# Altium footprint library WSON-6(2.0X2.0).PcbLib: 1 footprints
Each footprint in its own frame and in the unit in brackets; x right, y up, seen from the top. Pads: shape width x height; smd on the part's side, far side on the other; paste and mask are expansions set on the pad; w line width, h text height; cw(c..) or ccw(c..) is an arc to the next point about the centre after c.
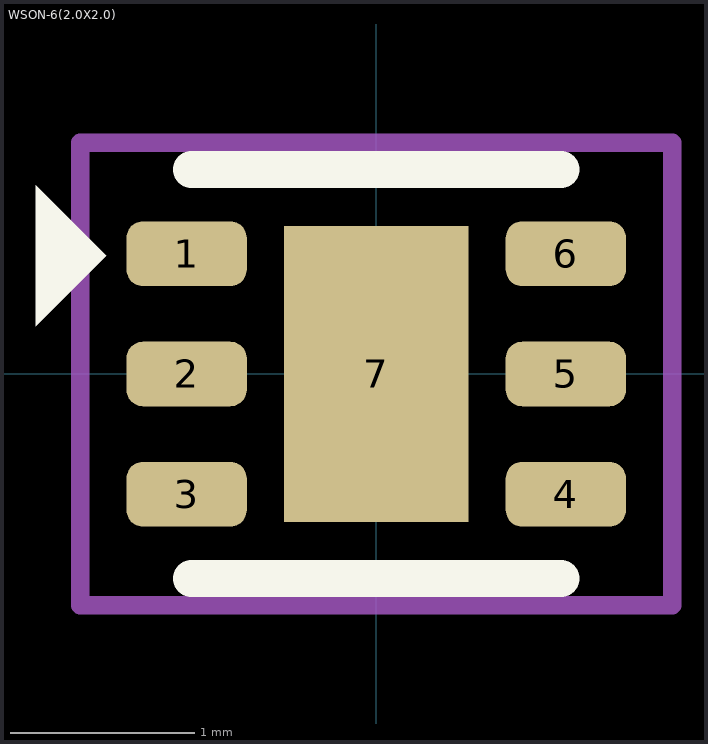
[diagram p0: the footprint, top view; thin cyan lines are the x and y axes]

## WSON-6(2.0X2.0) [mm]
pads (7):
  rrect50% 0.65x0.35 smd mask+0.07: 1(-1.025,0.65) 2(-1.025,0) 3(-1.025,-0.65) 4(1.025,-0.65) 5(1.025,0) 6(1.025,0.65)
  rect 1x1.6 smd paste-2: 7(0,0)
Top Overlay:
  region: -1.84,1.021 -1.459,0.64 -1.84,0.259
  lines w0.2: -1,-1.105 1,-1.105 ; -1,1.105 1,1.105
Top Paste:
  rectangle: -0.5,-0.8 0.5,-0.1
  rectangle: -0.5,0.1 0.5,0.8
Top Courtyard:
  lines w0.1: -1.6,-1.25 -1,-1.25 1.6,-1.25 1.6,-0.675 1.6,1.25 1,1.25 -1.6,1.25 -1.6,0.675 -1.6,-1.25
3D body "step_temp.STEP": height 0.8, standoff 0, extent -1,-1 1,1